# EAGLE library part RMCM01 (library SparkFun-RF)
Polar RMCM01 Heart Rate Monitor Receiver The Polar heart rate receiver component receiver wirelessly receives the heart rate signal from Polar transmitter belt. The complete heart rate measurement system consists of three different parts; transmitter, receiver and electronics and/or display device that is outputting the heart rate value. SparkFun Products Polar Heart Rate Monitor Interface <https://www.sparkfun.com/products/8661> (SEN-08661)
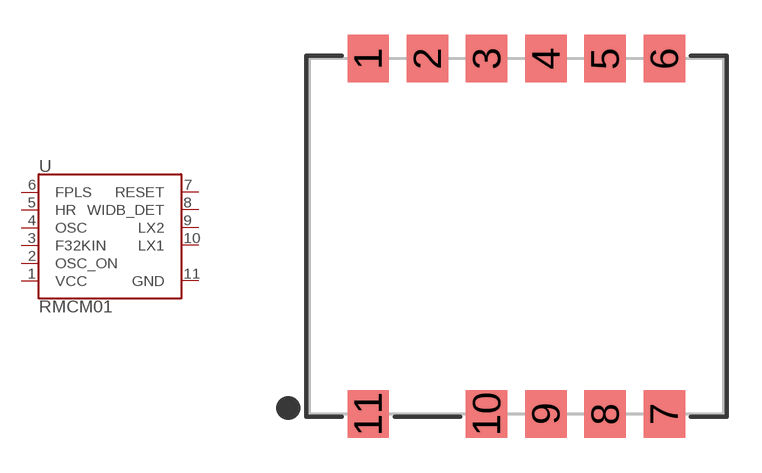
[diagram p8: symbol with the pads of RMCM01; footprint RMCM01]

Designator prefix -

## RMCM01 (PROD_ID: COMP-08853)  [RMCM01]
1  VCC
2  OSC_ON
3  F32KIN
4  OSC
5  HR
6  FPLS
7  RESET
8  WIDB_DET
9  LX2
10  LX1
11  GND

## Footprint RMCM01 (pad centres in mm)
Polar RMCM-01 Heart Rate Receiver Module Datasheet <https://www.sparkfun.com/datasheets/Wireless/General/RMCM01.pdf>
smd 1.778 x 2.032: 1 -6.35,7.62; 2 -3.81,7.62; 3 -1.27,7.62; 4 1.27,7.62; 5 3.81,7.62; 6 6.35,7.62; 7 6.35,-7.62; 8 3.81,-7.62; 9 1.27,-7.62; 10 -1.27,-7.62; 11 -6.35,-7.62